# Altium schematic symbol library Project.SchLib: 3 symbols
Pins are listed as number, name and electrical type; pins without a type are passive.

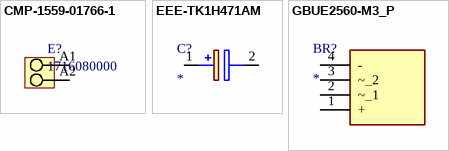
[diagram p0: symbols CMP-1559-01766-1 to GBUE2560-M3_P]

## CMP-1559-01766-1
designator E?, comment 1716080000
OMNIMATE Signal - series LM; Manufacturer: Weidmueller; Solder_pin_length_mm: 3,5 mm; Solid_max_H05_07_V_U: 2,5 mm²; Contact_material: Cu-Leg; No_of_poles: 2; Mounting_onto_the_PCB: Solder connection; Contact_surface: tinned; Wire_cross_section_AWG_max_UL_1059: AWG 14; Rated_voltage_for_surge_voltage_class_pollution_degree_II_2: 630 V; Side_termination_characteristic: closed side; UL_94_flammability_rating: V-0; Wire_cross_section_AWG_min_UL_1059: AWG 24; Pitch_mm: 5,08 mm; Pitch_inch: 0,2 inch; Rated_voltage_use_group_B_UL_1059: 300 V; Solid_min_H05_07_V_U: 0,2 mm²; Short_text_for_material: LM 5.08/02/90 3.5SN OR BX; Insulating_material: Wemid (PA); Rated_current_use_group_B_UL_1059: 15 A; PartNumber: 1716080000; Colour: Orange; ComponentLink1URL: http://www.weidmueller.com/; ComponentLink1Description: Manufacturer URL; Revision: V1; Qty: 500 PCS; ComponentLink2Description: URL Link1; ComponentLink2URL: http://catalog.weidmueller.com/catalog/Start.do?localeId=en&ObjectID=1716080000; Packaging: Box; PackageReference: LM_5_08_90_02
footprint LM_5_08_90_02 (OMNIMATE Signal - Serie LM  LM 5.08/02/90 3.5)
pins: A1, A2
1 alternate drawing of the same symbol

## EEE-TK1H471AM
designator C?
Capacitor Polarised; Manufacturer_Name: Panasonic; Manufacturer_Part_Number: EEE-TK1H471AM; Description: Cap Aluminum Lytic 470uF 50V 20% (16 X 16.5mm) SMD 0.15 Ohm 900mA 2000h 125C Automotive T/R; Datasheet Link: http://industrial.panasonic.com/cdbs/www-data/pdf/RDE0000/ABA0000C1190.pdf; Height: 17mm
footprint EEEFK0J682AM
pins: 1 +, 2 -

## GBUE2560-M3_P
designator BR?
Bridge Rectifier; Manufacturer_Name: Vishay; Manufacturer_Part_Number: GBUE2560-M3/P; Datasheet Link: https://componentsearchengine.com//GBUE2560-M3_P.pdf; Height: 18.55mm; Mouser2 Part Number: 78-GBUE2560-M3/P; Mouser2 Price/Stock: https://www.mouser.com/Search/Refine.aspx?Keyword=78-GBUE2560-M3%2FP
footprint GBUE2560M3P
pins: 1 +, 2 ~_1, 3 ~_2, 4 -